# Altium footprint library MicroCombiconMC_1881493.PcbLib: 1 footprints
Each footprint in its own frame and in the unit in brackets; x right, y up, seen from the top. Pads: shape width x height; smd on the part's side, far side on the other; paste and mask are expansions set on the pad; w line width, h text height; cw(c..) or ccw(c..) is an arc to the next point about the centre after c.
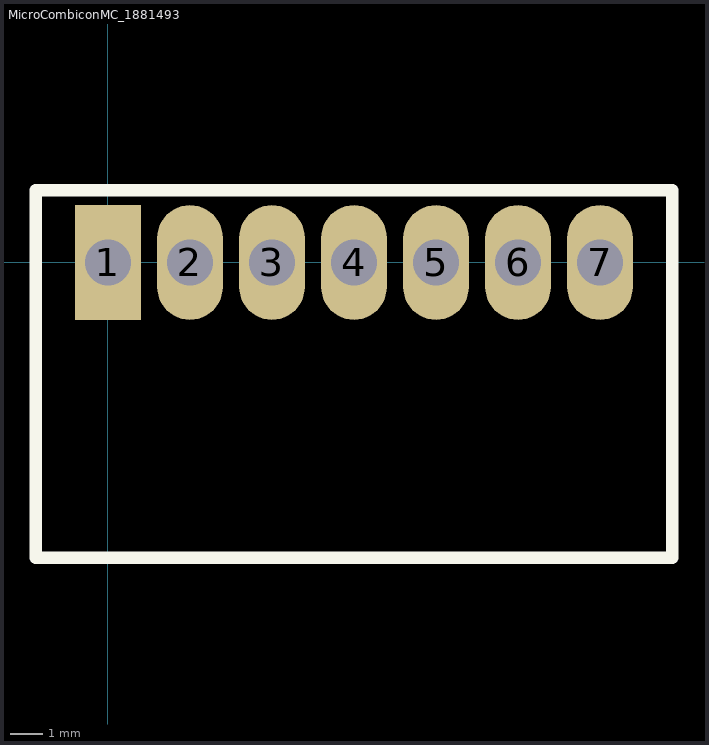
[diagram p0: the footprint, top view; thin cyan lines are the x and y axes]

## MicroCombiconMC_1881493 [mm]
pads (7):
  rect 2x3.5 hole 1.4: 1(0,0)
  oval 2x3.5 hole 1.4: 2(2.5,0) 3(5,0) 4(7.5,0) 5(10,0) 6(12.5,0) 7(15,0)
Top Overlay:
  lines w0.381: -2.2,-9 -2.2,2.2 17.2,2.2 17.2,-9 -2.2,-9
3D body: height 8.1, standoff 0, extent -2,-8.8 17,2